# EAGLE library part M3807X(80PIN) (library renesas_mcu)
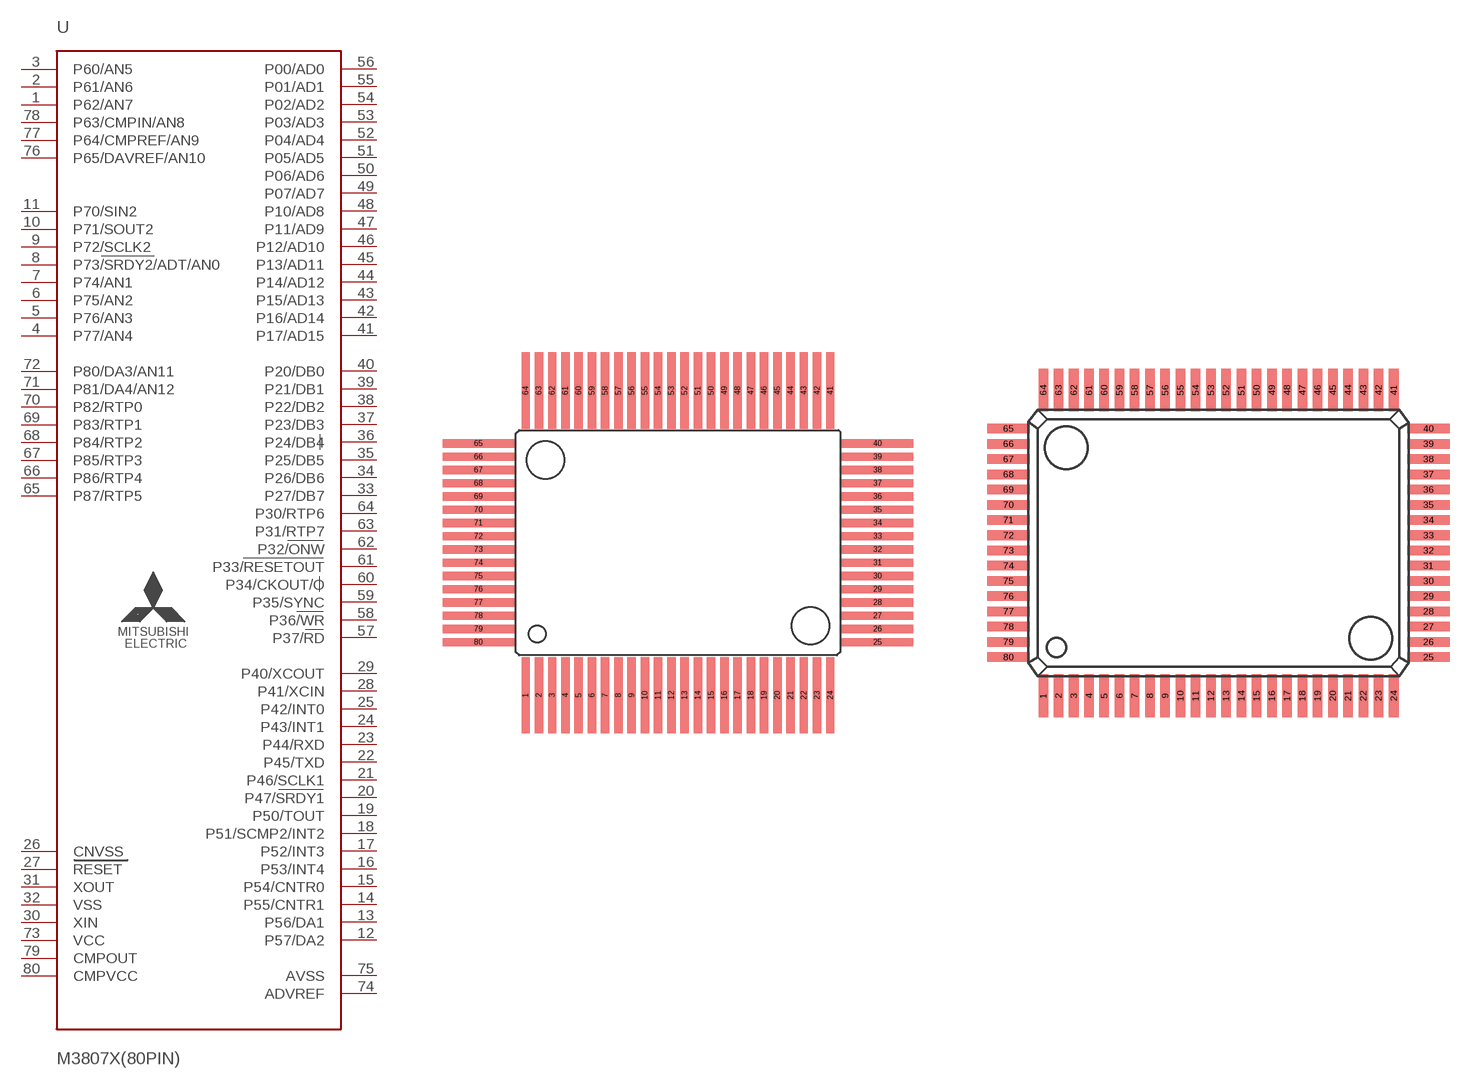
[diagram p30: symbol with the pads of 80P6N-A(SOCKET); footprints 80P6N-A(SOCKET), 80P6N-A]

Designator prefix -

## M3807X(80PIN)2  [80P6N-A(SOCKET)]
1  P62/AN7
2  P61/AN6
3  P60/AN5
4  P77/AN4
5  P76/AN3
6  P75/AN2
7  P74/AN1
8  P73/SRDY2/ADT/AN0
9  P72/SCLK2
10  P71/SOUT2
11  P70/SIN2
12  P57/DA2
13  P56/DA1
14  P55/CNTR1
15  P54/CNTR0
16  P53/INT4
17  P52/INT3
18  P51/SCMP2/INT2
19  P50/TOUT
20  P47/SRDY1
21  P46/SCLK1
22  P45/TXD
23  P44/RXD
24  P43/INT1
25  P42/INT0
26  CNVSS  in
27  RESET  in
28  P41/XCIN
29  P40/XCOUT
30  XIN  in
31  XOUT  out
32  VSS  pwr
33  P27/DB7
34  P26/DB6
35  P25/DB5
36  P24/DB4
37  P23/DB3
38  P22/DB2
39  P21/DB1
40  P20/DB0
41  P17/AD15
42  P16/AD14
43  P15/AD13
44  P14/AD12
45  P13/AD11
46  P12/AD10
47  P11/AD9
48  P10/AD8
49  P07/AD7
50  P06/AD6
51  P05/AD5
52  P04/AD4
53  P03/AD3
54  P02/AD2
55  P01/AD1
56  P00/AD0
57  P37/RD
58  P36/WR
59  P35/SYNC
60  P34/CKOUT/O
61  P33/RESETOUT
62  P32/ONW
63  P31/RTP7
64  P30/RTP6
65  P87/RTP5
66  P86/RTP4
67  P85/RTP3
68  P84/RTP2
69  P83/RTP1
70  P82/RTP0
71  P81/DA4/AN12
72  P80/DA3/AN11
73  VCC  pwr
74  ADVREF  in
75  AVSS  in
76  P65/DAVREF/AN10
77  P64/CMPREF/AN9
78  P63/CMPIN/AN8
79  CMPOUT  out
80  CMPVCC  pas

## M3807X(80PIN)1  [80P6N-A]
Pads as for 80P6N-A(SOCKET)

## Footprint 80P6N-A(SOCKET) (pad centres in mm)
for socket
smd 0.5 x 4.6: 1 -9.2,-9.2; 2 -8.4,-9.2; 3 -7.6,-9.2; 4 -6.8,-9.2; 5 -6,-9.2; 6 -5.2,-9.2; 7 -4.4,-9.2; 8 -3.6,-9.2; 9 -2.8,-9.2; 10 -2,-9.2; 11 -1.2,-9.2; 12 -0.4,-9.2; 13 0.4,-9.2; 14 1.2,-9.2; 15 2,-9.2; 16 2.8,-9.2; 17 3.6,-9.2; 18 4.4,-9.2; 19 5.2,-9.2; 20 6,-9.2; 21 6.8,-9.2; 22 7.6,-9.2; 23 8.4,-9.2; 24 9.2,-9.2; 41 9.2,9.2; 42 8.4,9.2; 43 7.6,9.2; 44 6.8,9.2; 45 6,9.2; 46 5.2,9.2; 47 4.4,9.2; 48 3.6,9.2; 49 2.8,9.2; 50 2,9.2; 51 1.2,9.2; 52 0.4,9.2; 53 -0.4,9.2; 54 -1.2,9.2; 55 -2,9.2; 56 -2.8,9.2; 57 -3.6,9.2; 58 -4.4,9.2; 59 -5.2,9.2; 60 -6,9.2; 61 -6.8,9.2; 62 -7.6,9.2; 63 -8.4,9.2; 64 -9.2,9.2
smd 4.3 x 0.5: 25 12.05,-6; 26 12.05,-5.2; 27 12.05,-4.4; 28 12.05,-3.6; 29 12.05,-2.8; 30 12.05,-2; 31 12.05,-1.2; 32 12.05,-0.4; 33 12.05,0.4; 34 12.05,1.2; 35 12.05,2; 36 12.05,2.8; 37 12.05,3.6; 38 12.05,4.4; 39 12.05,5.2; 40 12.05,6; 65 -12.05,6; 66 -12.05,5.2; 67 -12.05,4.4; 68 -12.05,3.6; 69 -12.05,2.8; 70 -12.05,2; 71 -12.05,1.2; 72 -12.05,0.4; 73 -12.05,-0.4; 74 -12.05,-1.2; 75 -12.05,-2; 76 -12.05,-2.8; 77 -12.05,-3.6; 78 -12.05,-4.4; 79 -12.05,-5.2; 80 -12.05,-6

## Footprint 80P6N-A (pad centres in mm)
smd 0.5 x 2.25: 1 -9.2,-8.025; 2 -8.4,-8.025; 3 -7.6,-8.025; 4 -6.8,-8.025; 5 -6,-8.025; 6 -5.2,-8.025; 7 -4.4,-8.025; 8 -3.6,-8.025; 9 -2.8,-8.025; 10 -2,-8.025; 11 -1.2,-8.025; 12 -0.4,-8.025; 13 0.4,-8.025; 14 1.2,-8.025; 15 2,-8.025; 16 2.8,-8.025; 17 3.6,-8.025; 18 4.4,-8.025; 19 5.2,-8.025; 20 6,-8.025; 21 6.8,-8.025; 22 7.6,-8.025; 23 8.4,-8.025; 24 9.2,-8.025; 41 9.2,8.025; 42 8.4,8.025; 43 7.6,8.025; 44 6.8,8.025; 45 6,8.025; 46 5.2,8.025; 47 4.4,8.025; 48 3.6,8.025; 49 2.8,8.025; 50 2,8.025; 51 1.2,8.025; 52 0.4,8.025; 53 -0.4,8.025; 54 -1.2,8.025; 55 -2,8.025; 56 -2.8,8.025; 57 -3.6,8.025; 58 -4.4,8.025; 59 -5.2,8.025; 60 -6,8.025; 61 -6.8,8.025; 62 -7.6,8.025; 63 -8.4,8.025; 64 -9.2,8.025
smd 2.25 x 0.5: 25 11.025,-6; 26 11.025,-5.2; 27 11.025,-4.4; 28 11.025,-3.6; 29 11.025,-2.8; 30 11.025,-2; 31 11.025,-1.2; 32 11.025,-0.4; 33 11.025,0.4; 34 11.025,1.2; 35 11.025,2; 36 11.025,2.8; 37 11.025,3.6; 38 11.025,4.4; 39 11.025,5.2; 40 11.025,6; 65 -11.025,6; 66 -11.025,5.2; 67 -11.025,4.4; 68 -11.025,3.6; 69 -11.025,2.8; 70 -11.025,2; 71 -11.025,1.2; 72 -11.025,0.4; 73 -11.025,-0.4; 74 -11.025,-1.2; 75 -11.025,-2; 76 -11.025,-2.8; 77 -11.025,-3.6; 78 -11.025,-4.4; 79 -11.025,-5.2; 80 -11.025,-6